# EAGLE library part R7FA6M5-100LQFP (library SparkFun_Thing_Plus_RA6M5)
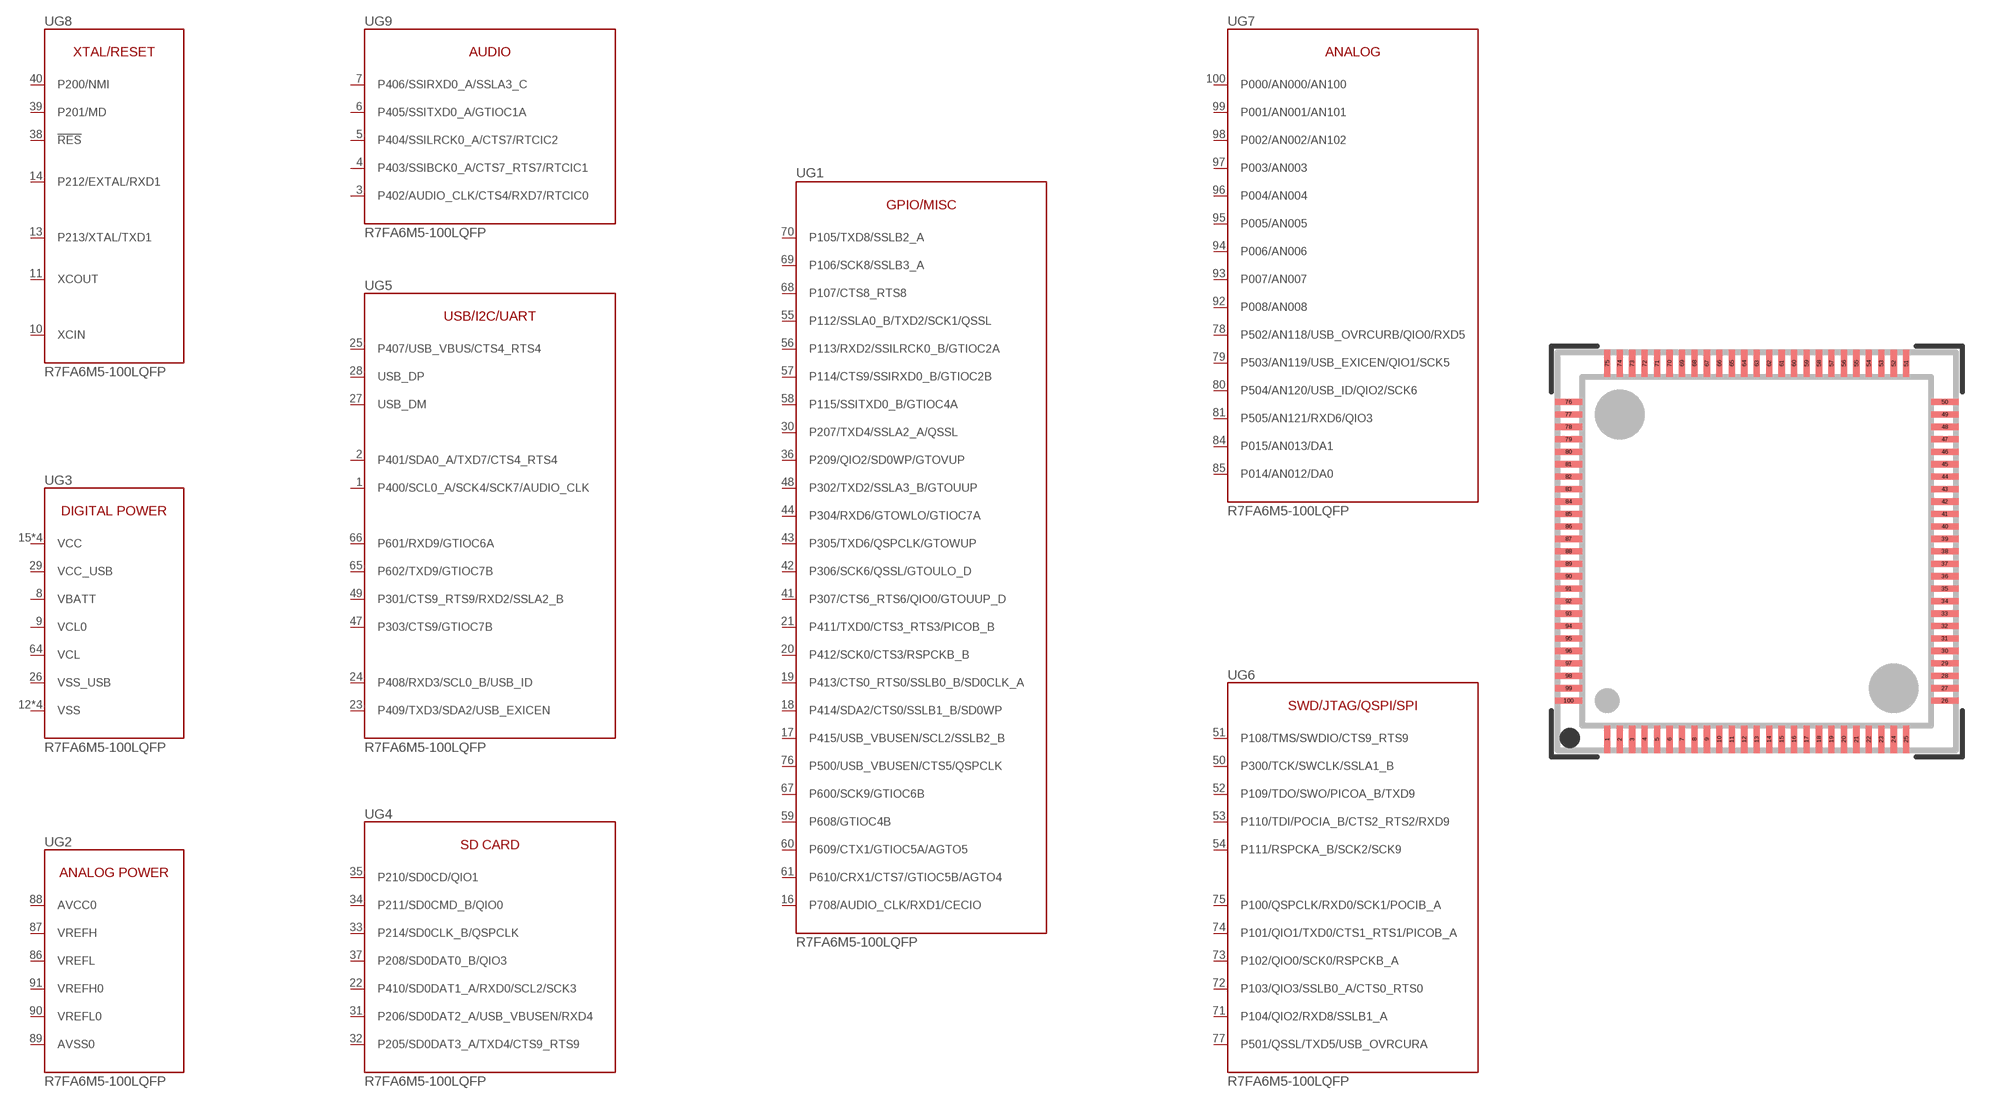
[diagram p0: symbol with the pads of P-LQFP100-14X14-0.50; footprint P-LQFP100-14X14-0.50]

Designator prefix U; gates G1=R7FA6M5_A G2=R7FA6M5_APWR G3=R7FA6M5_DPWR G4=R7FA6M5_B G5=R7FA6M5_C G6=R7FA6M5_D G7=R7FA6M5_E G8=R7FA6M5_F G9=R7FA6M5_G

## R7FA6M5-100LQFP (PROD_ID: IC-20781; VALUE: R7FA6M5)  [P-LQFP100-14X14-0.50]
1  G5:P400/SCL0_A/SCK4/SCK7/AUDIO_CLK
2  G5:P401/SDA0_A/TXD7/CTS4_RTS4
3  G9:P402/AUDIO_CLK/CTS4/RXD7/RTCIC0
4  G9:P403/SSIBCK0_A/CTS7_RTS7/RTCIC1
5  G9:P404/SSILRCK0_A/CTS7/RTCIC2
6  G9:P405/SSITXD0_A/GTIOC1A
7  G9:P406/SSIRXD0_A/SSLA3_C
8  G3:VBATT
9  G3:VCL0
10  G8:XCIN
11  G8:XCOUT
12  G3:VSS
13  G8:P213/XTAL/TXD1
14  G8:P212/EXTAL/RXD1
15  G3:VCC
16  G1:P708/AUDIO_CLK/RXD1/CECIO
17  G1:P415/USB_VBUSEN/SCL2/SSLB2_B
18  G1:P414/SDA2/CTS0/SSLB1_B/SD0WP
19  G1:P413/CTS0_RTS0/SSLB0_B/SD0CLK_A
20  G1:P412/SCK0/CTS3/RSPCKB_B
21  G1:P411/TXD0/CTS3_RTS3/PICOB_B
22  G4:P410/SD0DAT1_A/RXD0/SCL2/SCK3
23  G5:P409/TXD3/SDA2/USB_EXICEN
24  G5:P408/RXD3/SCL0_B/USB_ID
25  G5:P407/USB_VBUS/CTS4_RTS4
26  G3:VSS_USB
27  G5:USB_DM
28  G5:USB_DP
29  G3:VCC_USB
30  G1:P207/TXD4/SSLA2_A/QSSL
31  G4:P206/SD0DAT2_A/USB_VBUSEN/RXD4
32  G4:P205/SD0DAT3_A/TXD4/CTS9_RTS9
33  G4:P214/SD0CLK_B/QSPCLK
34  G4:P211/SD0CMD_B/QIO0
35  G4:P210/SD0CD/QIO1
36  G1:P209/QIO2/SD0WP/GTOVUP
37  G4:P208/SD0DAT0_B/QIO3
38  G8:!RES!
39  G8:P201/MD
40  G8:P200/NMI
41  G1:P307/CTS6_RTS6/QIO0/GTOUUP_D
42  G1:P306/SCK6/QSSL/GTOULO_D
43  G1:P305/TXD6/QSPCLK/GTOWUP
44  G1:P304/RXD6/GTOWLO/GTIOC7A
45  G3:VSS
46  G3:VCC
47  G5:P303/CTS9/GTIOC7B
48  G1:P302/TXD2/SSLA3_B/GTOUUP
49  G5:P301/CTS9_RTS9/RXD2/SSLA2_B
50  G6:P300/TCK/SWCLK/SSLA1_B
51  G6:P108/TMS/SWDIO/CTS9_RTS9
52  G6:P109/TDO/SWO/PICOA_B/TXD9
53  G6:P110/TDI/POCIA_B/CTS2_RTS2/RXD9
54  G6:P111/RSPCKA_B/SCK2/SCK9
55  G1:P112/SSLA0_B/TXD2/SCK1/QSSL
56  G1:P113/RXD2/SSILRCK0_B/GTIOC2A
57  G1:P114/CTS9/SSIRXD0_B/GTIOC2B
58  G1:P115/SSITXD0_B/GTIOC4A
59  G1:P608/GTIOC4B
60  G1:P609/CTX1/GTIOC5A/AGTO5
61  G1:P610/CRX1/CTS7/GTIOC5B/AGTO4
62  G3:VCC
63  G3:VSS
64  G3:VCL
65  G5:P602/TXD9/GTIOC7B
66  G5:P601/RXD9/GTIOC6A
67  G1:P600/SCK9/GTIOC6B
68  G1:P107/CTS8_RTS8
69  G1:P106/SCK8/SSLB3_A
70  G1:P105/TXD8/SSLB2_A
71  G6:P104/QIO2/RXD8/SSLB1_A
72  G6:P103/QIO3/SSLB0_A/CTS0_RTS0
73  G6:P102/QIO0/SCK0/RSPCKB_A
74  G6:P101/QIO1/TXD0/CTS1_RTS1/PICOB_A
75  G6:P100/QSPCLK/RXD0/SCK1/POCIB_A
76  G1:P500/USB_VBUSEN/CTS5/QSPCLK
77  G6:P501/QSSL/TXD5/USB_OVRCURA
78  G7:P502/AN118/USB_OVRCURB/QIO0/RXD5
79  G7:P503/AN119/USB_EXICEN/QIO1/SCK5
80  G7:P504/AN120/USB_ID/QIO2/SCK6
81  G7:P505/AN121/RXD6/QIO3
82  G3:VCC
83  G3:VSS
84  G7:P015/AN013/DA1
85  G7:P014/AN012/DA0
86  G2:VREFL
87  G2:VREFH
88  G2:AVCC0
89  G2:AVSS0
90  G2:VREFL0
91  G2:VREFH0
92  G7:P008/AN008
93  G7:P007/AN007
94  G7:P006/AN006
95  G7:P005/AN005
96  G7:P004/AN004
97  G7:P003/AN003
98  G7:P002/AN002/AN102
99  G7:P001/AN001/AN101
100  G7:P000/AN000/AN100

## Footprint P-LQFP100-14X14-0.50 (pad centres in mm)
smd 0.25 x 1.1: 1 -6,-7.55; 2 -5.5,-7.55; 3 -5,-7.55; 4 -4.5,-7.55; 5 -4,-7.55; 6 -3.5,-7.55; 7 -3,-7.55; 8 -2.5,-7.55; 9 -2,-7.55; 10 -1.5,-7.55; 11 -1,-7.55; 12 -0.5,-7.55; 13 0,-7.55; 14 0.5,-7.55; 15 1,-7.55; 16 1.5,-7.55; 17 2,-7.55; 18 2.5,-7.55; 19 3,-7.55; 20 3.5,-7.55; 21 4,-7.55; 22 4.5,-7.55; 23 5,-7.55; 24 5.5,-7.55; 25 6,-7.55; 51 6,7.55; 52 5.5,7.55; 53 5,7.55; 54 4.5,7.55; 55 4,7.55; 56 3.5,7.55; 57 3,7.55; 58 2.5,7.55; 59 2,7.55; 60 1.5,7.55; 61 1,7.55; 62 0.5,7.55; 63 0,7.55; 64 -0.5,7.55; 65 -1,7.55; 66 -1.5,7.55; 67 -2,7.55; 68 -2.5,7.55; 69 -3,7.55; 70 -3.5,7.55; 71 -4,7.55; 72 -4.5,7.55; 73 -5,7.55; 74 -5.5,7.55; 75 -6,7.55
smd 1.1 x 0.25: 26 7.55,-6; 27 7.55,-5.5; 28 7.55,-5; 29 7.55,-4.5; 30 7.55,-4; 31 7.55,-3.5; 32 7.55,-3; 33 7.55,-2.5; 34 7.55,-2; 35 7.55,-1.5; 36 7.55,-1; 37 7.55,-0.5; 38 7.55,0; 39 7.55,0.5; 40 7.55,1; 41 7.55,1.5; 42 7.55,2; 43 7.55,2.5; 44 7.55,3; 45 7.55,3.5; 46 7.55,4; 47 7.55,4.5; 48 7.55,5; 49 7.55,5.5; 50 7.55,6; 76 -7.55,6; 77 -7.55,5.5; 78 -7.55,5; 79 -7.55,4.5; 80 -7.55,4; 81 -7.55,3.5; 82 -7.55,3; 83 -7.55,2.5; 84 -7.55,2; 85 -7.55,1.5; 86 -7.55,1; 87 -7.55,0.5; 88 -7.55,0; 89 -7.55,-0.5; 90 -7.55,-1; 91 -7.55,-1.5; 92 -7.55,-2; 93 -7.55,-2.5; 94 -7.55,-3; 95 -7.55,-3.5; 96 -7.55,-4; 97 -7.55,-4.5; 98 -7.55,-5; 99 -7.55,-5.5; 100 -7.55,-6